# Altium footprint library TO-220VERT.PcbLib: 1 footprints
Each footprint in its own frame and in the unit in brackets; x right, y up, seen from the top. Pads: shape width x height; smd on the part's side, far side on the other; paste and mask are expansions set on the pad; w line width, h text height; cw(c..) or ccw(c..) is an arc to the next point about the centre after c.
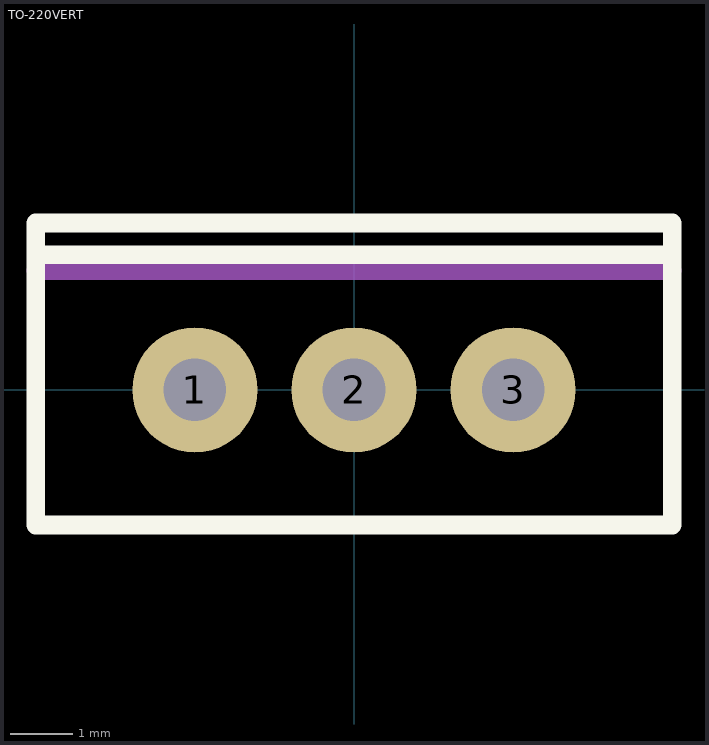
[diagram p0: the footprint, top view; thin cyan lines are the x and y axes]

## TO-220VERT [mm]
height 1.8
pads (3):
  round 2 hole 1: 1(-2.54,0) 2(0,0) 3(2.54,0)
Top Overlay:
  lines w0.3: -5.08,2.159 5.08,2.159 ; -5.08,-2.159 -5.08,2.667 5.08,2.667 5.08,-2.159 -5.08,-2.159
Mechanical 13:
  lines w0.254: -5.08,-2.159 -5.08,2.667 5.08,2.667 5.08,-2.159 -5.08,-2.159
  lines w0.3: -5.08,1.905 5.08,1.905
  text ".Designator" at -3.302,-3.683 h1.5
3D body: height 20.86, standoff -3, extent -5.335,-2.159 5.335,2.671